# Altium schematic symbol library Project_Vega.SchLib: 56 symbols (part 1 of 2)
Pins are listed as number, name and electrical type; pins without a type are passive.

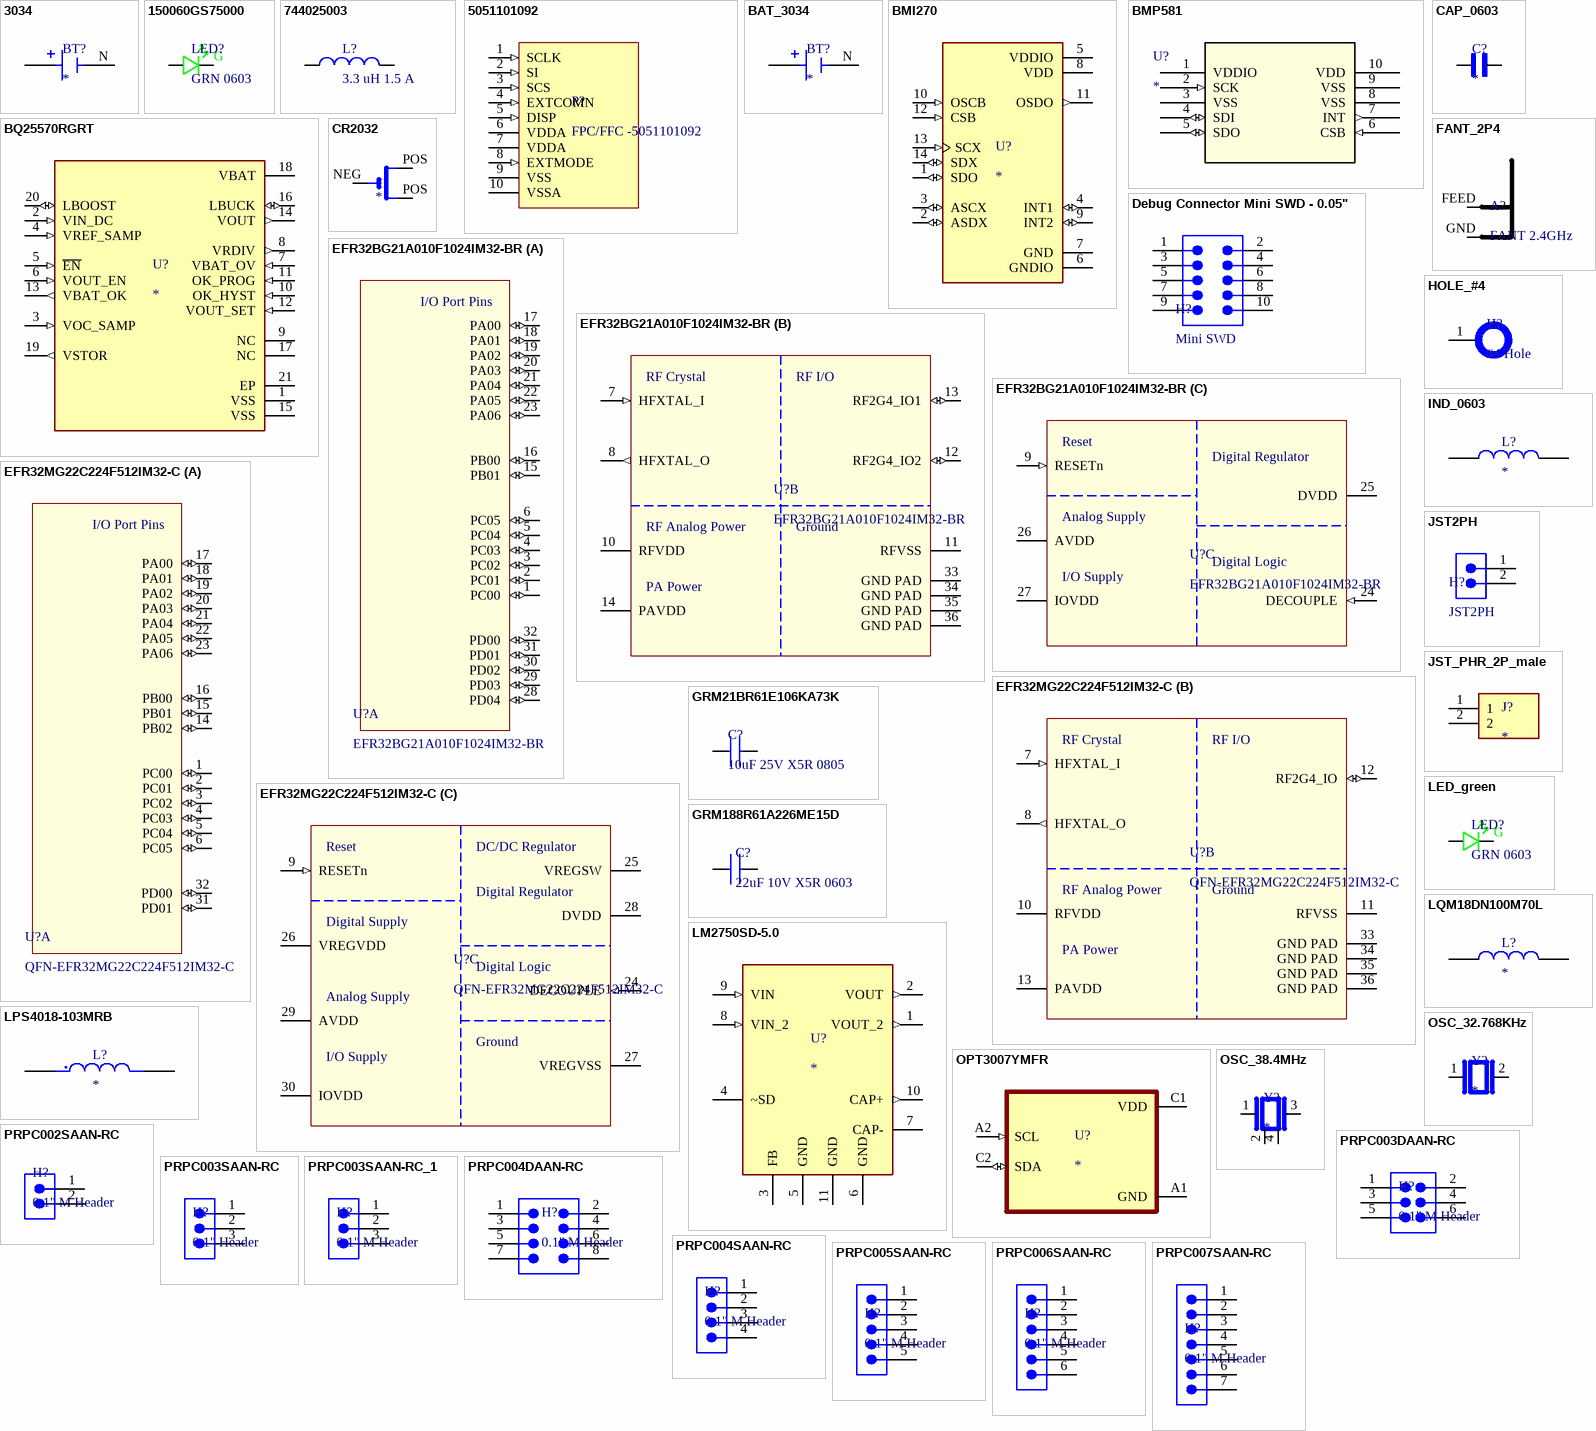
[diagram p0: symbols 3034 to PRPC007SAAN-RC]

## 3034
designator BT?
SMT Holder for 20mm Cell-Tin Nickel Plate; MP: 3034; MF: Keystone Electronics Corp.; SnapEDA_Link: https://www.snapeda.com/parts/3034/Keystone+Electronics/view-part/?ref=snap; Price: None; Check_prices: https://www.snapeda.com/parts/3034/Keystone+Electronics/view-part/?ref=eda; Availability: Not in stock; Value: *; Package: None
footprint BAT_3034
pins: N NEG, P1 POS, P2 POS

## 150060GS75000
designator LED?, comment GRN 0603
LED, 0603, GREEN, 430MCD, 520NM; Manufacturer: Wurth Electronics; Manufacturer Part Number: 150060GS75000; Dynamic Catalog: 0603 Rectangle with Flat Top Chip LEDs; 3D Model: SMCW_0603.igs / SMCW_0603.stp / SMCW_0603.wrl; Wavelength - Peak: 515nm; Voltage - Forward (Vf) (Typ): 3.2V; Current - Test: 20mA; Viewing Angle: 140°; Lens Type: Clear; Lens Style/Size: Rectangle with Flat Top, 1.1mm x 0.7mm; Other Names: 732-4971-2; Supplier 1: Digi-Key; Stock 1: 34964; Pricing 1: 1=0.14, 50=0.129, 100=0.11, 500=0.095 (USD); Standard Package: 4,000; Category: Optoelectronics; Family: LED Indication - Discrete; Series: WL-SMCW; Packaging: Tape & Reel (TR); Color: Green; Wavelength - Dominant: 520nm; Millicandela Rating: 430mcd; Package / Case: 0603 (1608 Metric); Size / Dimension: 1.60mm L x 0.80mm W; Height: 0.70mm; Mounting Type: Surface Mount; Online Catalog: 0603 Rectangle with Flat Top Chip LEDs; ComponentLink1URL: https://katalog.we-online.de/led/datasheet/150060GS75000.pdf?src-supplier=Digi-Key; ComponentLink1Description: https://katalog.we-online.de/led/datasheet/150060GS75000.pdf?src-supplier=Digi-Key; ComponentLink2URL: http://www.produktinfo.conrad.com/datenblaetter/750000-774999/759427-da-01-en-CHIPLED_0603_W_KL_GRUEN_150060GS75000.pdf?src-supplier=Conrad; ComponentLink2Description: http://www.produktinfo.conrad.com/datenblaetter/750000-774999/759427-da-01-en-CHIPLED_0603_W_KL_GRUEN_150060GS75000.pdf?src-supplier=Conrad; Supplier Part Number 1: 732-4971-1-ND
footprint LED_0603_GRN_WL-SMCW (SODFL, 2-Leads, Body 0.80x1.80mm, IPC Medium Density)
pins: A, C
text: G

## 744025003
designator L?, comment 3.3 uH 1.5 A
Power Choke Shielded Wirewound 3.3uH 20% 100KHz Ferrite 1.5A 101mOhm DCR T/R; Manufacturer: Wurth Electronics; Manufacturer Part Number: 744025003; Saturation Current: 1.8A; Self Resonant Frequency: 100MHz; DC Resistance (DCR): 101mR; ESR: 85MR; Supplier: Digikey; Supplier Part Number: 732-2614-1-ND; RoHS: Yes; Category: Fixed Inductors; Stock: 3837; Pricing: 1=1.64, 10=1.578, 50=1.45, 100=1.205, 250=1.088, 550=0.885, 1100=0.767 (USD); Mounting Technology: Surface Mount; Case/Package: 2828; Pins: 2; Core Material: Ferrite; Min Operating Temperature: -40°C; Max Operating Temperature: 125°C; Package Quantity: 1; Packaging: Cut Tape; Series: WE-TPC; Tolerance: 20%; Current Rating: 1.5A; Shielding: Shielded; Inductance Tolerance: 20%; Value: 3.3uH; Test Frequency: 100kHz; Max DC Current: 1.5A; Termination: SMD/SMT; RMS Current (Irms): 1.5A; Length: 2.8mm; Width: 2.8mm; Height: 2.8mm; Height - Seated (Max): 0.118inch; Depth: 2.8mm; RoHS Compliant: Yes; Reach SVHC Compliant: Unknown; ComponentLink1URL: https://datasheet.ciiva.com/1060/744025003-1060566.pdf?src-supplier=Digikey; ComponentLink1Description: https://datasheet.ciiva.com/1060/744025003-1060566.pdf?src-supplier=Digikey; ComponentLink2URL: https://datasheet.ciiva.com/4954/744025003-88791-4954796.pdf?src-supplier=Mouser; ComponentLink2Description: https://datasheet.ciiva.com/4954/744025003-88791-4954796.pdf?src-supplier=Mouser; ComponentLink3URL: https://datasheet.ciiva.com/11803/0900766b80f886b5-11803594.pdf?src-supplier=Rs; ComponentLink3Description: https://datasheet.ciiva.com/11803/0900766b80f886b5-11803594.pdf?src-supplier=Rs; ComponentLink4URL: https://datasheet.ciiva.com/1060/744025003-1060567.pdf?src-supplier=Digikey; ComponentLink4Description: https://datasheet.ciiva.com/1060/744025003-1060567.pdf?src-supplier=Digikey; ComponentLink5URL: https://datasheet.ciiva.com/1060/744025003-1060568.pdf?src-supplier=Digikey; ComponentLink5Description: https://datasheet.ciiva.com/1060/744025003-1060568.pdf?src-supplier=Digikey; ComponentLink6URL: https://datasheet.ciiva.com/14123/744025003-eng-tds-14123829.pdf?src-supplier=Distrelec; ComponentLink6Description: https://datasheet.ciiva.com/14123/744025003-eng-tds-14123829.pdf?src-supplier=Distrelec
footprint IND_2828x30 (Precision Wire Wound Inductor, 2-Leads, Body 2.80x2.80mm, IPC Medium Density)
pins: 1, 2

## 5051101092
designator P?, comment FPC/FFC -5051101092
10 Position FFC, FPC Connector Contacts, Bottom 0.020" (0.50mm) Surface Mount, Right Angle
footprint CON_5051101092_MOL
pins: 1 SCLK (in) "Serial clock signal", 2 SI (in) "Serial input signal", 3 SCS (in) "Chip select signal", 4 EXTCOMN (in) "External COM inversion signal input (H: Active)", 5 DISP (in) "Display ON/OFF signal", 6 VDDA (power) "Analog power supply", 7 VDDA (power) "Digital power supply", 8 EXTMODE (in) "COM inversion mode switch terminal", 9 VSS (power) "Logic GND", 10 VSSA (power) "Analog GND"

## BAT_3034
designator BT?
SMT Holder for 20mm Cell-Tin Nickel Plate; MP: 3034; MF: Keystone Electronics Corp.; SnapEDA_Link: https://www.snapeda.com/parts/3034/Keystone+Electronics/view-part/?ref=snap; Price: None; Check_prices: https://www.snapeda.com/parts/3034/Keystone+Electronics/view-part/?ref=eda; Availability: Not in stock; Value: *; Package: None; Supplier 1: Digikey; Supplier Part Number 1: 36-3034-ND
footprint BAT_3034
pins: N NEG, P1 POS, P2 POS

## BMI270
designator U?
Accelerometer, Gyroscope, 6 Axis Sensor IÂ²C, SPI Output; MP: BMI270; MF: Bosch Sensortec; Digi-Key_Part_Number: 828-1091-2-ND; Check_prices: https://www.snapeda.com/parts/BMI270/Bosch+Sensortec/view-part/?ref=eda; Package: LGA-14 Bosch Sensortec; SnapEDA_Link: https://www.snapeda.com/parts/BMI270/Bosch+Sensortec/view-part/?ref=snap; Value: *; Purchase-URL: https://pricing.snapeda.com/search/part/BMI270/?ref=eda; Supplier 1: Digikey; Supplier Part Number 1: 828-1091-1-ND
footprint XDCR_BMI270
pins: 1 SDO (io), 2 ASDX (io), 3 ASCX (io), 4 INT1 (io), 5 VDDIO (power), 6 GNDIO (power), 7 GND (power), 8 VDD (power), 9 INT2 (io), 10 OSCB (in), 11 OSDO (out), 12 CSB (in), 13 SCX (in), 14 SDX (io)

## BMP581
designator U?
Pressure sensor; Mfr_Name: Bosch Sensortec; RefDes: RefDes; Type: Type; Supplier 1: Digikey; Supplier Part Number 1: 828-BMP581CT-ND
footprint QFN10_BMP581_BOS-M
pins: 1 VDDIO (power), 2 SCK (in), 3 VSS (power), 4 SDI (io), 5 SDO (io), 6 CSB (in), 7 INT (out), 8 VSS (power), 9 VSS (power), 10 VDD (power)

## BQ25570RGRT
designator U?
Ultra Low power Harvester power Management IC with boost charger, and Nanopower Buck Converter 20-VQFN -40 to 125; MP: BQ25570RGRT; MF: Texas Instruments; Availability: Warning; SnapEDA_Link: https://www.snapeda.com/parts/BQ25570RGRT/Texas%20Instruments/view-part/49255/?ref=snap; Value: *; Price: None; Package: VQFN-20 Texas Instruments; Purchase-URL: https://pricing.snapeda.com/search/part/BQ25570RGRT/?ref=eda; Check_prices: https://www.snapeda.com/parts/BQ25570RGRT/Texas%20Instruments/view-part/49255/?ref=eda
footprint QFN50P350X350X100-21N
pins: 1 VSS (power), 2 VIN_DC (in), 3 VOC_SAMP (in), 4 VREF_SAMP (in), 5 ~{EN} (in), 6 VOUT_EN (in), 7 VBAT_OV (in), 8 VRDIV (out), 9 NC, 10 OK_HYST (in), 11 OK_PROG (in), 12 VOUT_SET (in), 13 VBAT_OK (out), 14 VOUT (out), 15 VSS (power), 16 LBUCK (io), 17 NC, 18 VBAT (power), 19 VSTOR (out), 20 LBOOST (io), 21 EP

## CAP_0603
designator C?
Ceramic Capacitor 0603; MF: Yageo; MP: CC0603KRX7R9BB104; SnapEDA_Link: https://www.snapeda.com/parts/CC0603KRX7R9BB104/Yageo/view-part/?ref=snap; Package: 0603 Yageo; Value: *; Check_prices: https://www.snapeda.com/parts/CC0603KRX7R9BB104/Yageo/view-part/?ref=eda
footprint CAP_0603 (Ceramic Capacitor 0603)
pins: 1, 2

## CR2032
designator ?
Coin, 20.0mm Lithium Manganese Dioxide 3V Battery Non-Rechargeable _Primary_; MF: FDK America,; MP: CR2032; Availability: Unavailable; Price: None; Package: FDK; Value: *; SnapEDA_Link: https://www.snapeda.com/parts/CR2032/FDK%20America%2C%20Inc.%2C%20a%20member%20of%20Fujitsu%20Group/view-part/1775317/?ref=snap
footprint CR2032-SMD
footprint CR2032-THRU
pins: NEG, POS, POS

## Debug Connector Mini SWD - 0.05"
designator H?, comment Mini SWD
Mini SWD 0.05" Pitch Connector - 10 Pin SMT Box Header; Manufacturer: Adafruit Industries; Manufacturer Part Number: 4048; Supplier 1: Digi-Key; RoHS: No; Category: Connectors; Stock 1: 201; Pricing 1: 1=1.95000 (USD); ComponentLink1URL: https://media.digikey.com/pdf/Data%20Sheets/Adafruit%20PDFs/4048_Web.pdf?src-supplier=Digi-Key; ComponentLink1Description: https://media.digikey.com/pdf/Data%20Sheets/Adafruit%20PDFs/4048_Web.pdf?src-supplier=Digi-Key
footprint FTSH-105-01-XXX-DV-K
pins: 1, 2, 3, 4, 5, 6, 7, 8, 9, 10

## EFR32BG21A010F1024IM32-BR
designator U?  (no BOM)
Blue Gecko, QFN32, 2.4G, 10dB, Bluetooth 5.1, 1024kB, 96kB(RAM), 20 GPIO; Manufacturer: Silicon Labs; Supplier: Digikey; Supplier Part Number: 336-5869-1-ND; Manufacturer Part Number: EFR32BG21A010F1024IM32-BR; RoHS: No; Category: RF Receivers, Transceivers; Stock: 38892; Pricing: 1=4.27, 10=3.816, 25=3.4348, 100=3.1293, 250=2.82404, 500=2.6875 (USD); ComponentLink1URL: https://www.silabs.com/documents/login/data-sheets/efr32bg21-datasheet.pdf?src-supplier=Digikey; ComponentLink1Description: https://www.silabs.com/documents/login/data-sheets/efr32bg21-datasheet.pdf?src-supplier=Digikey; ComponentLink2URL: https://datasheet.octopart.com/EFR32BG21A010F1024IM32-BR-Silicon-Labs-datasheet-142046433.pdf?src-supplier=Arrow.cn; ComponentLink2Description: https://datasheet.octopart.com/EFR32BG21A010F1024IM32-BR-Silicon-Labs-datasheet-142046433.pdf?src-supplier=Arrow.cn
footprint QFN32-EFR32xG2xIM32-BR (QFN, 32-Leads, Body 4.00x4.00mm, Pitch 0.40mm, Thermal Pad 2.80x2.80mm, IPC Medium Density)
part A pins: 1 PC00 (io) "GPIO", 2 PC01 (io) "GPIO", 3 PC02 (io) "GPIO", 4 PC03 (io) "GPIO", 5 PC04 (io) "GPIO", 6 PC05 (io) "GPIO", 15 PB01 (io) "GPIO", 16 PB00 (io) "GPIO", 17 PA00 (io) "GPIO", 18 PA01 (io) "GPIO", 19 PA02 (io) "GPIO", 20 PA03 (io) "GPIO", 21 PA04 (io) "GPIO", 22 PA05 (io) "GPIO", 23 PA06 (io) "GPIO", 28 PD04 (io) "GPIO", 29 PD03 (io) "GPIO", 30 PD02 (io) "GPIO", 31 PD01 (io) "GPIO", 32 PD00 (io) "GPIO"
part B pins: 7 HFXTAL_I (in) "High Frequency Crystal Input", 8 HFXTAL_O (out) "High Frequency Crystal Output", 10 RFVDD (power) "Radio power supply", 11 RFVSS (power) "Radio Ground", 12 RF2G4_IO2 (io) "2.4 GHz RF input/output", 13 RF2G4_IO1 (io) "2.4 GHz RF input/output", 14 PAVDD (power) "Power Amplifier (PA) power supply", 33 GND PAD (power) "Radio Ground", 34 GND PAD (power) "Radio Ground", 35 GND PAD (power) "Radio Ground", 36 GND PAD (power) "Radio Ground"
part C pins: 9 RESETn (in) "Reset Pin", 24 DECOUPLE (in) "Decouple output for on-chip voltage regulator. An external decoupling capacitor is required at this pin.", 25 DVDD (power) "Digital power supply", 26 AVDD (power) "Analog power supply", 27 IOVDD (power) "Digital IO power supply"
part A text: I/O Port Pins
part B text: RF Crystal; RF I/O; RF Analog Power; Ground; PA Power
part C text: Reset; Digital Regulator; Analog Supply; Digital Logic; I/O Supply

## EFR32MG22C224F512IM32-C
designator U?, comment QFN-EFR32MG22C224F512IM32-C
IC RF TxRx + MCU WiFi Bluetooth v5.2, Zigbee® 2.4GHz 32-VFQFN Exposed Pad
footprint QFN32-EFR32xG2xIM32-BR (QFN, 32-Leads, Body 4.00x4.00mm, Pitch 0.40mm, Thermal Pad 2.80x2.80mm, IPC Medium Density)
part A pins: 1 PC00 (io) "GPIO", 2 PC01 (io) "GPIO", 3 PC02 (io) "GPIO", 4 PC03 (io) "GPIO", 5 PC04 (io) "GPIO", 6 PC05 (io) "GPIO", 14 PB02 (io) "GPIO", 15 PB01 (io) "GPIO", 16 PB00 (io) "GPIO", 17 PA00 (io) "GPIO", 18 PA01 (io) "GPIO", 19 PA02 (io) "GPIO", 20 PA03 (io) "GPIO", 21 PA04 (io) "GPIO", 22 PA05 (io) "GPIO", 23 PA06 (io) "GPIO", 31 PD01 (io) "GPIO", 32 PD00 (io) "GPIO"
part B pins: 7 HFXTAL_I (in) "High Frequency Crystal Input", 8 HFXTAL_O (out) "High Frequency Crystal Output", 10 RFVDD (power) "Radio power supply", 11 RFVSS (power) "Radio Ground", 12 RF2G4_IO (io) "2.4 GHz RF input/output", 13 PAVDD (power) "Power Amplifier (PA) power supply", 33 GND PAD (power) "Radio Ground", 34 GND PAD (power) "Radio Ground", 35 GND PAD (power) "Radio Ground", 36 GND PAD (power) "Radio Ground"
part C pins: 9 RESETn (in) "Reset Pin", 24 DECOUPLE (in) "Decouple output for on-chip voltage regulator. An external decoupling capacitor is required at this pin.", 25 VREGSW (power) "DCDC regulator input supply", 26 VREGVDD (power) "Analog power supply", 27 VREGVSS (power) "DCDC ground", 28 DVDD (power) "Digital power supply", 29 AVDD  (power) "Analog power supply", 30 IOVDD (power) "I/O power supply"
part A text: I/O Port Pins
part B text: RF Crystal; RF I/O; RF Analog Power; Ground; PA Power
part C text: Reset; DC/DC Regulator; Digital Regulator; Digital Supply; Digital Logic; Analog Supply; Ground; I/O Supply

## FANT_2P4
designator A?, comment FANT 2.4GHz
Inverted F antenna
footprint FANT_2P4
pins: FEED 6, GND 6

## GRM21BR61E106KA73K
designator C?, comment 10uF 25V X5R 0805
Multilayer Ceramic Capacitor, 10 uF, 25 V, +/- 10%, X5R, 0805 [2012 Metric]; Manufacturer: Murata; Manufacturer Part Number: GRM21BR61E106KA73K; Supplier: Digikey; Supplier Part Number: 490-16824-1-ND; RoHS: Yes; Category: Ceramic Capacitors; Stock: 274241; Pricing: 1=0.21, 10=0.133, 50=0.0838, 100=0.0671, 500=0.04848, 1000=0.04288, 2500=0.04102, 5000=0.03729, 10000=0.03542, 20000=0.03356, 30000=0.03169, 50000=0.02983, 100000=0.02517, 250000=0.0233 (USD); Mounting Technology: Surface Mount; Case/Package: 0805; Weight: 0.000335oz; Case Code (Imperial): 0805; Case Code (Metric): 2012; Material: Ceramic; Min Operating Temperature: -55°C; Max Operating Temperature: 85°C; Packaging: Tape and Reel; Value: 10uF; Voltage Rating: 25V; Tolerance: 10%; Package Quantity: 10000; Dielectric: X5R; Voltage Rating (DC): 25V; Series: GRM; Length: 0.079inch; Width: 0.049inch; Height: 1.4mm; Thickness: 0.055inch; RoHS Compliant: Yes; ComponentLink1URL: http://www.mouser.com/ds/2/281/c02e-2905.pdf?src-supplier=Mouser; ComponentLink1Description: http://www.mouser.com/ds/2/281/c02e-2905.pdf?src-supplier=Mouser; ComponentLink2URL: http://search.murata.co.jp/Ceramy/image/img/A01X/G101/ENG/GRM21BR61E106KA73-01.pdf?src-supplier=Digikey; ComponentLink2Description: http://search.murata.co.jp/Ceramy/image/img/A01X/G101/ENG/GRM21BR61E106KA73-01.pdf?src-supplier=Digikey; ComponentLink3URL: https://search.murata.co.jp/Ceramy/image/img/A01X/G101/ENG/GRM21BR61E106KA73-01.pdf?src-supplier=Digikey; ComponentLink3Description: https://search.murata.co.jp/Ceramy/image/img/A01X/G101/ENG/GRM21BR61E106KA73-01.pdf?src-supplier=Digikey; ComponentLink4URL: https://datasheet.octopart.com/GRM21BR61E106KA73K-Murata-datasheet-149523495.pdf?src-supplier=Newark; ComponentLink4Description: https://datasheet.octopart.com/GRM21BR61E106KA73K-Murata-datasheet-149523495.pdf?src-supplier=Newark; ComponentLink5URL: https://datasheet.octopart.com/GRM21BR61E106KA73K-Murata-datasheet-99353849.pdf?src-supplier=Future+Electronics; ComponentLink5Description: https://datasheet.octopart.com/GRM21BR61E106KA73K-Murata-datasheet-99353849.pdf?src-supplier=Future+Electronics; ComponentLink6URL: https://datasheet.octopart.com/GRM21BR61E106KA73K-Murata-datasheet-165579666.pdf?src-supplier=TME; ComponentLink6Description: https://datasheet.octopart.com/GRM21BR61E106KA73K-Murata-datasheet-165579666.pdf?src-supplier=TME
footprint CAP_0805_2mmX1.25mm
pins: 1, 2

## GRM188R61A226ME15D
designator C?, comment 22uF 10V X5R 0603
CAP CER 22UF 10V X5R 0603; Manufacturer: Murata; Manufacturer Part Number: GRM188R61A226ME15D; Voltage Rating DC: 10 VDC; Tolerance: 20 %; Brand: Murata Electronics; Type: Voltage and Temperature Derating Recommended Product; Unit Weight: 0.000222 oz; Supplier 1: Digi-Key; Supplier Part Number 1: 490-10476-1-ND; Stock 1: 849458; Pricing 1: 1=0.33, 10=0.226, 50=0.1506, 100=0.1279, 500=0.0903, 1000=0.079 (USD); Product Category: Multilayer Ceramic Capacitors MLCC - SMD/SMT; RoHS: True; Capacitance: 22 uF; Dielectric: X5R; Case Code - in: 0603; Case Code - mm: 1608; Height: 0.8 mm; Maximum Operating Temperature: + 85 C; Minimum Operating Temperature: - 55 C; Product: General Type MLCCs; Series: GRM; Packaging: Reel; Length: 1.6 mm; Package / Case: 0603 (1608 metric); Factory Pack Quantity: 4000; Termination Style: SMD/SMT; Width: 0.8 mm; ComponentLink1URL: http://www.farnell.com/datasheets/2047978.pdf?src-supplier=Element14; ComponentLink1Description: http://www.farnell.com/datasheets/2047978.pdf?src-supplier=Element14
footprint CAP_0603_1MM (Chip Capacitor, 2-Leads, Body 1.60x0.80mm, IPC Medium Density)
pins: 1, 2

## HOLE_#4
designator H?, comment #4 Hole  (no BOM)
footprint HOLE_#4
pins: 1

## IND_0603
designator L?
Inductor Package 0603; MP: LQM18DN100M70L; MF: Murata Electronics; Price: None; SnapEDA_Link: https://www.snapeda.com/parts/LQM18DN100M70L/Murata/view-part/4834755/?ref=snap; Package: 0603 Murata; Availability: Unavailable; Value: *
footprint IND_0603 (Inductor Package 0603)
pins: 1, 2

## JST2PH
designator H?
Connector Header Through Hole 2 position 0.079" (2.00mm); Manufacturer: JST; Manufacturer Part Number: B2B-PH-K-S; Supplier: Digi-Key; Supplier Part Number: 455-1704-ND; RoHS: Yes; Category: Connectors; Stock: 1077617; Pricing: 1=0.19, 10=0.147, 100=0.1088, 500=0.09006, 1000=0.0788, 5000=0.06754, 10000=0.06567 (USD); ComponentLink1URL: https://datasheet.ciiva.com/6905/phseries-6905929.pdf?src-supplier=Digi-Key; ComponentLink1Description: https://datasheet.ciiva.com/6905/phseries-6905929.pdf?src-supplier=Digi-Key
footprint JST_B2B-PH-K-S(LF)(SN)
pins: 1, 2

## JST_PHR_2P_male
designator J?
2.0MM,HDR,2POS,R/A; Product_Type: Connector; Number_of_Positions: 2; MF: TE Connectivity; MP: 440055-2; Centerline_Pitch: 2 mm[.079 in]; SnapEDA_Link: https://www.snapeda.com/parts/440055-2/TE+Connectivity+AMP+Connectors/view-part/?ref=snap; Package: None; Value: *; EU_RoHS_Compliance: Compliant; Check_prices: https://www.snapeda.com/parts/440055-2/TE+Connectivity+AMP+Connectors/view-part/?ref=eda; Supplier 1: Digikey; Supplier Part Number 1: A100043-ND
footprint JST_PHR_2P_male
pins: 1, 2

## LED_green
designator LED?, comment GRN 0603
LED, 0603, GREEN, 430MCD, 520NM; Manufacturer: Wurth Electronics; Manufacturer Part Number: 150060GS75000; Dynamic Catalog: 0603 Rectangle with Flat Top Chip LEDs; 3D Model: SMCW_0603.igs / SMCW_0603.stp / SMCW_0603.wrl; Wavelength - Peak: 515nm; Voltage - Forward (Vf) (Typ): 3.2V; Current - Test: 20mA; Viewing Angle: 140°; Lens Type: Clear; Lens Style/Size: Rectangle with Flat Top, 1.1mm x 0.7mm; Other Names: 732-4971-2; Supplier 1: Digi-Key; Stock 1: 34964; Pricing 1: 1=0.14, 50=0.129, 100=0.11, 500=0.095 (USD); Standard Package: 4,000; Category: Optoelectronics; Family: LED Indication - Discrete; Series: WL-SMCW; Packaging: Tape & Reel (TR); Color: Green; Wavelength - Dominant: 520nm; Millicandela Rating: 430mcd; Package / Case: 0603 (1608 Metric); Size / Dimension: 1.60mm L x 0.80mm W; Height: 0.70mm; Mounting Type: Surface Mount; Online Catalog: 0603 Rectangle with Flat Top Chip LEDs; ComponentLink1URL: https://katalog.we-online.de/led/datasheet/150060GS75000.pdf?src-supplier=Digi-Key; ComponentLink1Description: https://katalog.we-online.de/led/datasheet/150060GS75000.pdf?src-supplier=Digi-Key; ComponentLink2URL: http://www.produktinfo.conrad.com/datenblaetter/750000-774999/759427-da-01-en-CHIPLED_0603_W_KL_GRUEN_150060GS75000.pdf?src-supplier=Conrad; ComponentLink2Description: http://www.produktinfo.conrad.com/datenblaetter/750000-774999/759427-da-01-en-CHIPLED_0603_W_KL_GRUEN_150060GS75000.pdf?src-supplier=Conrad; Supplier Part Number 1: 732-4971-1-ND
footprint LED_0603_GRN_WL-SMCW (SODFL, 2-Leads, Body 0.80x1.80mm, IPC Medium Density)
pins: A, C
text: G

## LM2750SD-5.0
designator U?
IC CONV REG SW CAP 5V; MP: LM2750SD-5-0; Package: None; Price: None; Value: *; Availability: Unavailable; Supplier 1: Digikey; Supplier Part Number 1: LM2750SD-5.0/NOPBCT-ND
footprint LM2750_DFN300X300X80-11N
pins: 1 VOUT_2 (out), 2 VOUT (out), 3 FB, 4 ~SD, 5 GND, 6 GND, 7 CAP-, 8 VIN_2 (in), 9 VIN (in), 10 CAP+ (out), 11 GND

## LPS4018-103MRB
designator L?
Power inductor, shielded, 20/30% tol, SMT, RoHS, lead-free, halogen-free; MF: Coilcraft; MP: LPS4018-103MRB; SnapEDA_Link: https://www.snapeda.com/parts/LPS4018-103MRB/Coilcraft/view-part/?ref=snap; Package: None; Value: *; Check_prices: https://www.snapeda.com/parts/LPS4018-103MRB/Coilcraft/view-part/?ref=eda
footprint IND_LPS4018-103MRB
pins: 1, 2

## LQM18DN100M70L
designator L?
Inductor with Inductance 10uH Tol.+/-20% Package 0603 (1608); MP: LQM18DN100M70L; MF: Murata Electronics; Price: None; SnapEDA_Link: https://www.snapeda.com/parts/LQM18DN100M70L/Murata/view-part/4834755/?ref=snap; Package: 0603 Murata; Availability: Unavailable; Value: *
footprint INDC1608X95N
pins: 1, 2

## OPT3007YMFR
designator U?
Ultra-thin ambient light sensor (ALS) with fixed I2C address 6-PICOSTAR -40 to 85; MP: OPT3007YMFR; MF: Texas Instruments; Value: *; Package: PICOSTAR-6 Texas Instruments; Check_prices: https://www.snapeda.com/parts/OPT3007YMFR/Texas+Instruments/view-part/?ref=eda; Price: None; Purchase-URL: https://pricing.snapeda.com/search/part/OPT3007YMFR/?ref=eda; SnapEDA_Link: https://www.snapeda.com/parts/OPT3007YMFR/Texas+Instruments/view-part/?ref=snap; Availability: In Stock; Supplier 1: Digikey; Supplier Part Number 1: 296-50382-1-ND
footprint BGA6N60X35P2X3_85X94X22N
pins: A1 GND (power), A2 SCL (in), C1 VDD (power), C2 SDA (io)

## OSC_32.768KHz
designator Y?
Tuning Fork Crystal 32.768kHz in 1.2 x 2.0mm package; MF: Micro Crystal; MP: CM8V-T1A-32.768KHZ-7PF-20PPM-TA-QC; Package: SMD-2 Micro Crystal; Price: None; Value: *; SnapEDA_Link: https://www.snapeda.com/parts/CM8V-T1A-32.768KHZ-7PF-20PPM-TA-QC/Micro+Crystal/view-part/?ref=snap; Availability: Not in stock; Check_prices: https://www.snapeda.com/parts/CM8V-T1A-32.768KHZ-7PF-20PPM-TA-QC/Micro+Crystal/view-part/?ref=eda; Supplier 1: Digikey; Supplier Part Number 1: 2195-CM8V-T1A-32.768KHZ-7PF-20PPM-TA-QCCT-ND
footprint OSC_32.768KHz (Tuning Fork Crystal 32.768kHz in 1.2 x 2.0mm package)
pins: 1, 2

## OSC_38.4MHz
designator Y?
38.4 MHz ±10ppm Crystal 10pF 40 Ohms 4-SMD, No Lead; MF: {'manufacturer': u'Murata Electronics'}; MP: XRCGB38M400F2P00R0; Package: None; Price: None; Value: *; Availability: Unavailable; Supplier 1: Digikey; Supplier Part Number 1: 4606-TZ3398BCT-ND
footprint OSC_38.4MHz (38.4 MHz ±10ppm Crystal 10pF 40 Ohms 4-SMD, No Lead)
pins: 1, 2, 3, 4

## PRPC002SAAN-RC
designator H?, comment 0.1" M Header
CONN HEADER VERT 2POS 2.54MM; Manufacturer: Sullins; Manufacturer Part Number: PRPC002SAAN-RC; Connector Type: Header, Unshrouded, Breakaway; Number of Positions: 2; Number of Positions Loaded: All; Pitch: 0.100" (2.54mm); Online Catalog: 0.100" (2.54mm) Pitch Connector Headers; Other Names: S9510E-02  S9510E-02-ND; Supplier 1: Digi-Key; Stock 1: 42739; Pricing 1: 1=0.08, 10=0.073, 25=0.054, 50=0.0464, 100=0.0449, 250=0.0387, 500=0.0372 (USD); Standard Package: 1; Category: Connectors, Interconnects; Family: Rectangular Connectors - Headers, Male Pins; Series: -; Packaging: Bulk; Contact Type: Male Pin; Number of Rows: 1; Row Spacing: -; Contact Mating Length: 0.230" (5.84mm); Mounting Type: Through Hole; Termination: Solder; Fastening Type: -; Features: -; Contact Finish: Gold; Contact Finish Thickness: Flash; Color: Black; ComponentLink1URL: https://media.digikey.com/PDF/Data%20Sheets/Sullins%20PDFs/xRxCzzzSxxN-RC_ST_11635-B.pdf?src-supplier=Digi-Key; ComponentLink1Description: https://media.digikey.com/PDF/Data%20Sheets/Sullins%20PDFs/xRxCzzzSxxN-RC_ST_11635-B.pdf?src-supplier=Digi-Key; Supplier Part Number 1: S1011EC-02-ND
footprint 2-PIN_MALE_HEADER_01-IN (Terminal Assembly, 1x2 Pins, Vertical, 2.54mm Pitch, Male)
pins: 1, 2

## PRPC003DAAN-RC
designator H?, comment 0.1" M Header
CONN HEADER Dual 6POS 2.54MM; Manufacturer: Sullins; Manufacturer Part Number: PRPC003DAAN-RC; Connector Type: Header, Unshrouded, Breakaway; Number of Positions: 6; Number of Positions Loaded: All; Pitch: 0.100" (2.54mm); Online Catalog: 0.100" (2.54mm) Pitch Connector Headers; Other Names: S9511E-03  S9511E-03-ND; Supplier 1: Digi-Key; Stock 1: 4304; Pricing 1: 1=0.19, 10=0.174, 25=0.1488, 50=0.13, 100=0.1207, 250=0.1068, 500=0.1022 (USD); Standard Package: 1; Category: Connectors, Interconnects; Family: Rectangular Connectors - Headers, Male Pins; Series: -; Packaging: Bulk; Contact Type: Male Pin; Number of Rows: 2; Row Spacing: 0.100" (2.54mm); Contact Mating Length: 0.230" (5.84mm); Mounting Type: Through Hole; Termination: Solder; Fastening Type: -; Features: -; Contact Finish: Gold; Contact Finish Thickness: Flash; Color: Black; ComponentLink1URL: https://drawings-pdf.s3.amazonaws.com/11636.pdf?src-supplier=Digi-Key; ComponentLink1Description: https://drawings-pdf.s3.amazonaws.com/11636.pdf?src-supplier=Digi-Key; Supplier Part Number 1: S2011EC-03-ND
footprint 6-PIN_DUAL_MALE_HEADER_01-IN (Terminal Assembly, 2x3 Pins, Vertical, 2.54mm Pitch, Male)
pins: 1, 2, 3, 4, 5, 6

## PRPC003SAAN-RC
designator H?, comment 0.1" Header
CONN HEADER VERT 3POS 2.54MM; Manufacturer: Sullins; Manufacturer Part Number: PRPC003SAAN-RC; Connector Type: Header, Unshrouded, Breakaway; Number of Positions: 3; Number of Positions Loaded: All; Pitch: 0.100" (2.54mm); Online Catalog: 0.100" (2.54mm) Pitch Connector Headers; Other Names: S9510E-03  S9510E-03-ND; Supplier 1: Digi-Key; Stock 1: 19067; Pricing 1: 1=0.12, 10=0.109, 25=0.0812, 50=0.0696, 100=0.0673, 250=0.058, 500=0.0557 (USD); Standard Package: 1; Category: Connectors, Interconnects; Family: Rectangular Connectors - Headers, Male Pins; Series: -; Packaging: Bulk; Contact Type: Male Pin; Number of Rows: 1; Row Spacing: -; Contact Mating Length: 0.230" (5.84mm); Mounting Type: Through Hole; Termination: Solder; Fastening Type: -; Features: -; Contact Finish: Gold; Contact Finish Thickness: Flash; Color: Black; ComponentLink1URL: https://media.digikey.com/PDF/Data%20Sheets/Sullins%20PDFs/xRxCzzzSxxN-RC_ST_11635-B.pdf?src-supplier=Digi-Key; ComponentLink1Description: https://media.digikey.com/PDF/Data%20Sheets/Sullins%20PDFs/xRxCzzzSxxN-RC_ST_11635-B.pdf?src-supplier=Digi-Key; Supplier Part Number 1: S1011EC-03-ND
footprint 3-PIN_MALE_HEADER_01-IN (.025 SQ Post Terminal Strip Assembly, 1x3 Pins, Vertical, 2.54mm Pitch, Male)
pins: 1, 2, 3

## PRPC003SAAN-RC_1
designator H?, comment 0.1" M Header
CONN HEADER VERT 3POS 2.54MM; Manufacturer: Sullins; Manufacturer Part Number: PRPC003SAAN-RC; Connector Type: Header, Unshrouded, Breakaway; Number of Positions: 3; Number of Positions Loaded: All; Pitch: 0.100" (2.54mm); Online Catalog: 0.100" (2.54mm) Pitch Connector Headers; Other Names: S9510E-03  S9510E-03-ND; Supplier 1: Digi-Key; Stock 1: 19067; Pricing 1: 1=0.12, 10=0.109, 25=0.0812, 50=0.0696, 100=0.0673, 250=0.058, 500=0.0557 (USD); Standard Package: 1; Category: Connectors, Interconnects; Family: Rectangular Connectors - Headers, Male Pins; Series: -; Packaging: Bulk; Contact Type: Male Pin; Number of Rows: 1; Row Spacing: -; Contact Mating Length: 0.230" (5.84mm); Mounting Type: Through Hole; Termination: Solder; Fastening Type: -; Features: -; Contact Finish: Gold; Contact Finish Thickness: Flash; Color: Black; ComponentLink1URL: https://media.digikey.com/PDF/Data%20Sheets/Sullins%20PDFs/xRxCzzzSxxN-RC_ST_11635-B.pdf?src-supplier=Digi-Key; ComponentLink1Description: https://media.digikey.com/PDF/Data%20Sheets/Sullins%20PDFs/xRxCzzzSxxN-RC_ST_11635-B.pdf?src-supplier=Digi-Key; Supplier Part Number 1: S1011EC-03-ND
footprint 3-PIN_MALE_HEADER_01-IN (.025 SQ Post Terminal Strip Assembly, 1x3 Pins, Vertical, 2.54mm Pitch, Male)
pins: 1, 2, 3

## PRPC004DAAN-RC
designator H?, comment 0.1" M Header
CONN HEADER DUAL 8POS 2.54MM; Manufacturer: Sullins; Manufacturer Part Number: PRPC004DAAN-RC; Connector Type: Header, Unshrouded, Breakaway; Number of Positions: 8; Number of Positions Loaded: All; Pitch: 0.100" (2.54mm); Online Catalog: 0.100" (2.54mm) Pitch Connector Headers; Other Names: S9511E-04  S9511E-04-ND; Supplier 1: Digi-Key; Stock 1: 4816; Pricing 1: 1=0.25, 10=0.232, 25=0.198, 50=0.1734, 100=0.161, 250=0.1424, 500=0.1362 (USD); Standard Package: 1; Category: Connectors, Interconnects; Family: Rectangular Connectors - Headers, Male Pins; Series: -; Packaging: Bulk; Contact Type: Male Pin; Number of Rows: 2; Row Spacing: 0.100" (2.54mm); Contact Mating Length: 0.230" (5.84mm); Mounting Type: Through Hole; Termination: Solder; Fastening Type: -; Features: -; Contact Finish: Gold; Contact Finish Thickness: Flash; Color: Black; ComponentLink1URL: https://s3.amazonaws.com/catalogspreads-pdf/PAGE110-111%20.100%20MALE%20HDR%20ST.pdf?src-supplier=Digi-Key; ComponentLink1Description: https://s3.amazonaws.com/catalogspreads-pdf/PAGE110-111%20.100%20MALE%20HDR%20ST.pdf?src-supplier=Digi-Key; Supplier Part Number 1: S2011EC-04-ND
footprint 8-PIN_DUAL_MALE_HEADER_01-IN (Assembly .025" [.64] SQ Post Terminal Strip, 2x4 Pins, Vertical, 2.54mm Pitch, Male)
pins: 1, 2, 3, 4, 5, 6, 7, 8

## PRPC004SAAN-RC
designator H?, comment 0.1" M Header
CONN HEADER VERT 4POS 2.54MM; Manufacturer: Sullins; Manufacturer Part Number: PRPC004SAAN-RC; Connector Type: Header, Unshrouded, Breakaway; Number of Positions: 4; Number of Positions Loaded: All; Pitch: 0.100" (2.54mm); Online Catalog: 0.100" (2.54mm) Pitch Connector Headers; Other Names: S9510E-04  S9510E-04-ND; Supplier 1: Digi-Key; Stock 1: 6306; Pricing 1: 1=0.15, 10=0.146, 25=0.1084, 50=0.0928, 100=0.0898, 250=0.0774, 500=0.0743 (USD); Standard Package: 1; Category: Connectors, Interconnects; Family: Rectangular Connectors - Headers, Male Pins; Series: -; Packaging: Bulk; Contact Type: Male Pin; Number of Rows: 1; Row Spacing: -; Contact Mating Length: 0.230" (5.84mm); Mounting Type: Through Hole; Termination: Solder; Fastening Type: -; Features: -; Contact Finish: Gold; Contact Finish Thickness: Flash; Color: Black; ComponentLink1URL: https://media.digikey.com/PDF/Data%20Sheets/Sullins%20PDFs/xRxCzzzSxxN-RC_ST_11635-B.pdf?src-supplier=Digi-Key; ComponentLink1Description: https://media.digikey.com/PDF/Data%20Sheets/Sullins%20PDFs/xRxCzzzSxxN-RC_ST_11635-B.pdf?src-supplier=Digi-Key; Supplier Part Number 1: S1011EC-04-ND
footprint 4-PIN_MALE_HEADER_01-IN (Assembly .025" [.64] SQ Post Terminal Strip, 1x4 Pins, Vertical, 2.54mm Pitch, Male)
pins: 1, 2, 3, 4

## PRPC005SAAN-RC
designator H?, comment 0.1" M Header
CONN HEADER VERT 5POS 2.54MM; Manufacturer: Sullins; Manufacturer Part Number: PRPC005SAAN-RC; Connector Type: Header, Unshrouded, Breakaway; Number of Positions: 5; Number of Positions Loaded: All; Pitch: 0.100" (2.54mm); Online Catalog: 0.100" (2.54mm) Pitch Connector Headers; Other Names: S9510E-05  S9510E-05-ND; Supplier 1: Digi-Key; Stock 1: 9728; Pricing 1: 1=0.19, 10=0.182, 25=0.1356, 50=0.1162, 100=0.1122, 250=0.0968, 500=0.0929 (USD); Standard Package: 1; Category: Connectors, Interconnects; Family: Rectangular Connectors - Headers, Male Pins; Series: -; Packaging: Bulk; Contact Type: Male Pin; Number of Rows: 1; Row Spacing: -; Contact Mating Length: 0.230" (5.84mm); Mounting Type: Through Hole; Termination: Solder; Fastening Type: -; Features: -; Contact Finish: Gold; Contact Finish Thickness: Flash; Color: Black; ComponentLink1URL: https://media.digikey.com/PDF/Data%20Sheets/Sullins%20PDFs/xRxCzzzSxxN-RC_ST_11635-B.pdf?src-supplier=Digi-Key; ComponentLink1Description: https://media.digikey.com/PDF/Data%20Sheets/Sullins%20PDFs/xRxCzzzSxxN-RC_ST_11635-B.pdf?src-supplier=Digi-Key; Supplier Part Number 1: S1011EC-05-ND
footprint 5-PIN_MALE_HEADER_01-IN (Press Fit Socket Assembly, 1x5 Pins, Vertical, 2.54mm Pitch, Male)
pins: 1, 2, 3, 4, 5

## PRPC006SAAN-RC
designator H?, comment 0.1" M Header
CONN HEADER VERT 6POS 2.54MM; Manufacturer: Sullins; Manufacturer Part Number: PRPC006SAAN-RC; Connector Type: Header, Unshrouded, Breakaway; Number of Positions: 6; Number of Positions Loaded: All; Pitch: 0.100" (2.54mm); Online Catalog: 0.100" (2.54mm) Pitch Connector Headers; Other Names: S9510E-06  S9510E-06-ND; Supplier 1: Digi-Key; Stock 1: 1567; Pricing 1: 1=0.19, 10=0.174, 25=0.1488, 50=0.13, 100=0.1207, 250=0.1068, 500=0.1022 (USD); Standard Package: 1; Category: Connectors, Interconnects; Family: Rectangular Connectors - Headers, Male Pins; Series: -; Packaging: Bulk; Contact Type: Male Pin; Number of Rows: 1; Row Spacing: -; Contact Mating Length: 0.230" (5.84mm); Mounting Type: Through Hole; Termination: Solder; Fastening Type: -; Features: -; Contact Finish: Gold; Contact Finish Thickness: Flash; Color: Black; ComponentLink1URL: https://media.digikey.com/PDF/Data%20Sheets/Sullins%20PDFs/xRxCzzzSxxN-RC_ST_11635-B.pdf?src-supplier=Digi-Key; ComponentLink1Description: https://media.digikey.com/PDF/Data%20Sheets/Sullins%20PDFs/xRxCzzzSxxN-RC_ST_11635-B.pdf?src-supplier=Digi-Key; Supplier Part Number 1: S1011EC-06-ND
footprint 6-PIN_MALE_HEADER_01-IN (Assembly .025" [.64] SQ Post Terminal Strip, 1x6 Pins, Vertical, 2.54mm Pitch, Male)
pins: 1, 2, 3, 4, 5, 6

## PRPC007SAAN-RC
designator H?, comment 0.1" M Header
CONN HEADER VERT 7POS 2.54MM; Manufacturer: Sullins; Manufacturer Part Number: PRPC007SAAN-RC; Connector Type: Header, Unshrouded, Breakaway; Number of Positions: 7; Number of Positions Loaded: All; Pitch: 0.100" (2.54mm); Online Catalog: 0.100" (2.54mm) Pitch Connector Headers; Other Names: S9510E-07  S9510E-07-ND; Supplier 1: Digi-Key; Stock 1: 5250; Pricing 1: 1=0.22, 10=0.203, 25=0.1732, 50=0.1518, 100=0.1409, 250=0.1246, 500=0.1192 (USD); Standard Package: 1; Category: Connectors, Interconnects; Family: Rectangular Connectors - Headers, Male Pins; Series: -; Packaging: Bulk; Contact Type: Male Pin; Number of Rows: 1; Row Spacing: -; Contact Mating Length: 0.230" (5.84mm); Mounting Type: Through Hole; Termination: Solder; Fastening Type: -; Features: -; Contact Finish: Gold; Contact Finish Thickness: Flash; Color: Black; ComponentLink1URL: https://media.digikey.com/PDF/Data%20Sheets/Sullins%20PDFs/xRxCzzzSxxN-RC_ST_11635-B.pdf?src-supplier=Digi-Key; ComponentLink1Description: https://media.digikey.com/PDF/Data%20Sheets/Sullins%20PDFs/xRxCzzzSxxN-RC_ST_11635-B.pdf?src-supplier=Digi-Key; Supplier Part Number 1: S1011EC-07-ND
footprint 7-PIN_MALE_HEADER_01-IN (.025 SQ Post Terminal Strip Assembly, 1x7 Pins, Vertical, 2.54mm Pitch, Male)
pins: 1, 2, 3, 4, 5, 6, 7

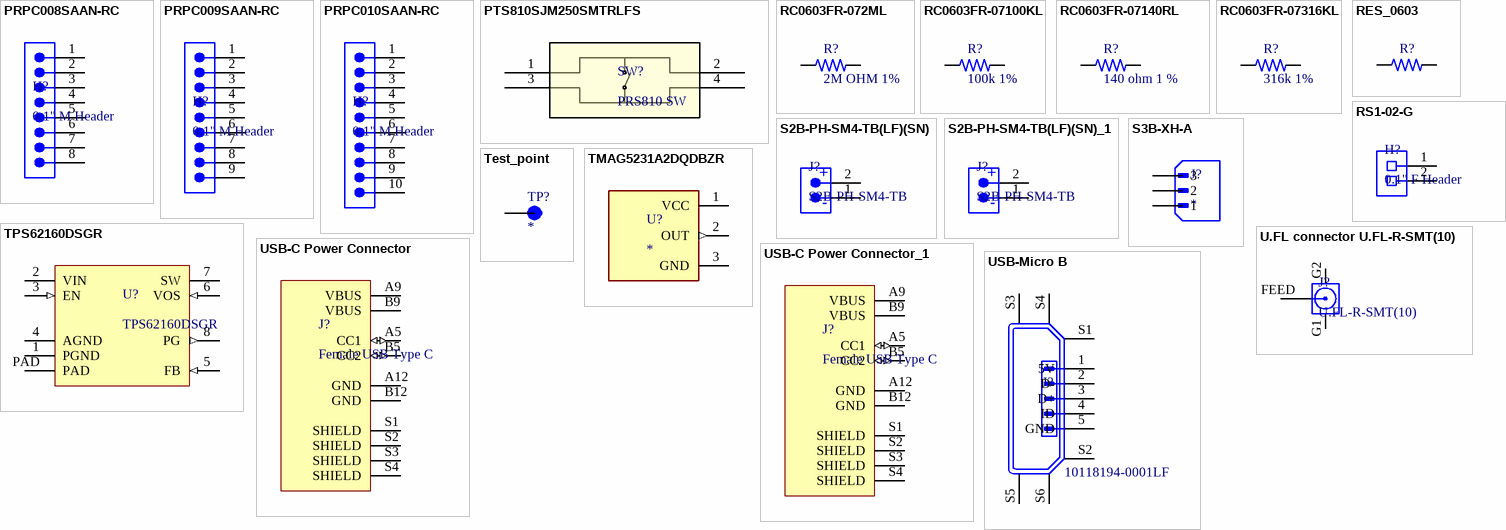
[diagram p1: symbols PRPC008SAAN-RC to USB-Micro B]

## PRPC008SAAN-RC
designator H?, comment 0.1" M Header
CONN HEADER VERT 8POS 2.54MM; Manufacturer: Sullins; Manufacturer Part Number: PRPC008SAAN-RC; Connector Type: Header, Unshrouded, Breakaway; Number of Positions: 8; Number of Positions Loaded: All; Pitch: 0.100" (2.54mm); Online Catalog: 0.100" (2.54mm) Pitch Connector Headers; Other Names: S9510E-08  S9510E-08-ND; Supplier 1: Digi-Key; Stock 1: 5089; Pricing 1: 1=0.25, 10=0.232, 25=0.198, 50=0.1734, 100=0.161, 250=0.1424, 500=0.1362 (USD); Standard Package: 1; Category: Connectors, Interconnects; Family: Rectangular Connectors - Headers, Male Pins; Series: -; Packaging: Bulk; Contact Type: Male Pin; Number of Rows: 1; Row Spacing: -; Contact Mating Length: 0.230" (5.84mm); Mounting Type: Through Hole; Termination: Solder; Fastening Type: -; Features: -; Contact Finish: Gold; Contact Finish Thickness: Flash; Color: Black; ComponentLink1URL: https://media.digikey.com/PDF/Data%20Sheets/Sullins%20PDFs/xRxCzzzSxxN-RC_ST_11635-B.pdf?src-supplier=Digi-Key; ComponentLink1Description: https://media.digikey.com/PDF/Data%20Sheets/Sullins%20PDFs/xRxCzzzSxxN-RC_ST_11635-B.pdf?src-supplier=Digi-Key; Supplier Part Number 1: S1011EC-08-ND
footprint 8-PIN_MALE_HEADER_01-IN (Press Fit Socket Assembly, 1x8 Pins, Vertical, 2.54mm Pitch, Male)
pins: 1, 2, 3, 4, 5, 6, 7, 8

## PRPC009SAAN-RC
designator H?, comment 0.1" M Header
CONN HEADER VERT 9POS 2.54MM; Manufacturer: Sullins; Manufacturer Part Number: PRPC009SAAN-RC; Connector Type: Header, Unshrouded, Breakaway; Number of Positions: 9; Number of Positions Loaded: All; Pitch: 0.100" (2.54mm); Online Catalog: 0.100" (2.54mm) Pitch Connector Headers; Other Names: S9510E-09  S9510E-09-ND; Supplier 1: Digi-Key; Stock 1: 1505; Pricing 1: 1=0.28, 10=0.261, 25=0.2228, 50=0.195, 100=0.1811, 250=0.1602, 500=0.1533 (USD); Standard Package: 1; Category: Connectors, Interconnects; Family: Rectangular Connectors - Headers, Male Pins; Series: -; Packaging: Bulk; Contact Type: Male Pin; Number of Rows: 1; Row Spacing: -; Contact Mating Length: 0.230" (5.84mm); Mounting Type: Through Hole; Termination: Solder; Fastening Type: -; Features: -; Contact Finish: Gold; Contact Finish Thickness: Flash; Color: Black; ComponentLink1URL: https://media.digikey.com/PDF/Data%20Sheets/Sullins%20PDFs/xRxCzzzSxxN-RC_ST_11635-B.pdf?src-supplier=Digi-Key; ComponentLink1Description: https://media.digikey.com/PDF/Data%20Sheets/Sullins%20PDFs/xRxCzzzSxxN-RC_ST_11635-B.pdf?src-supplier=Digi-Key; Supplier Part Number 1: S1011EC-09-ND
footprint 9-PIN_MALE_HEADER_01-IN (Press Fit Socket Assembly, 1x10 Pins, Vertical, 2.54mm Pitch, Male)
pins: 1, 2, 3, 4, 5, 6, 7, 8, 9

## PRPC010SAAN-RC
designator H?, comment 0.1" M Header
CONN HEADER VERT 10POS 2.54MM; Manufacturer: Sullins; Manufacturer Part Number: PRPC010SAAN-RC; Connector Type: Header, Unshrouded; Number of Positions: 10; Number of Positions Loaded: All; Pitch: 0.100" (2.54mm); Dynamic Catalog: 0.100" (2.54mm) Headers; Other Names: S9510E-10 / S9510E-10-ND; Supplier 1: Digi-Key; Stock 1: 2153; Pricing 1: 1=0.29, 10=0.271, 25=0.2324, 50=0.1974, 100=0.1896, 250=0.1703, 500=0.1625 (USD); Standard Package: 1; Category: Connectors, Interconnects; Family: Rectangular Connectors - Headers, Male Pins; Contact Type: Male Pin; Number of Rows: 1; Contact Mating Length: 0.230" (5.84mm); Mounting Type: Through Hole; Termination: Solder; Contact Finish: Gold; Contact Finish Thickness: Flash; Color: Black; Packaging: Bulk; ComponentLink1URL: https://media.digikey.com/PDF/Data%20Sheets/Sullins%20PDFs/xRxCzzzSxxN-RC_ST_11635-B.pdf?src-supplier=Digi-Key; ComponentLink1Description: https://media.digikey.com/PDF/Data%20Sheets/Sullins%20PDFs/xRxCzzzSxxN-RC_ST_11635-B.pdf?src-supplier=Digi-Key; Supplier Part Number 1: S1011EC-10-ND
footprint 10-PIN_MALE_HEADER_01-IN (Press Fit Socket Assembly, 1x10 Pins, Vertical, 2.54mm Pitch, Male)
pins: 1, 2, 3, 4, 5, 6, 7, 8, 9, 10

## PTS810SJM250SMTRLFS
designator SW?, comment PRS810 SW
Switch Tactile N.O. SPST Button J-Bend 0.05A 16V 150000Cycles 1.569N SMD T/R; Manufacturer: ITT C&K; Manufacturer Part Number: PTS810SJM250SMTRLFS; Actuator Color: Grey; Operating Force: 160gf; Current Rating: 50mA; Illumination Type: Non-Illuminated; Switch Travel: 0.15mm; Switch Function: Off-Mom; Number of Positions: 2; Actuator Type: Standard; Contact Resistance: 500mR; Supplier: Digikey; Supplier Part Number: CKN10502CT-ND; RoHS: Yes; Stock: 130228; Pricing: 1=0.49, 10=0.474, 25=0.4568, 100=0.3954, 250=0.36028, 500=0.3339, 1000=0.29876, 2900=0.28294, 5800=0.26185, 14500=0.24428 (USD); Mounting Technology: Surface Mount; Case/Package: SMD/SMT; Pins: 4; Mechanical Life: 150000Cycles; Color: Black; Contact Plating: Silver; Min Operating Temperature: -40°C; Max Operating Temperature: 85°C; Throw Configuration: SPST; Packaging: Tape and Reel; Voltage Rating (DC): 16V; Package Quantity: 2900; Series: PTS810; Termination: J-Bend; Max Current Rating: 50mA; Orientation: Straight; Contact Current Rating: 50mA; Length: 3.2mm; Depth: 4.6mm; RoHS Compliant: Yes; Lead Free: Lead Free; ComponentLink1URL: https://datasheet.ciiva.com/24082/pts810-4mar13-248115-24082262.pdf?src-supplier=Mouser; ComponentLink1Description: https://datasheet.ciiva.com/24082/pts810-4mar13-248115-24082262.pdf?src-supplier=Mouser; ComponentLink2URL: https://datasheet.ciiva.com/18514/pts810-4mar13-18514058.pdf?src-supplier=Digikey; ComponentLink2Description: https://datasheet.ciiva.com/18514/pts810-4mar13-18514058.pdf?src-supplier=Digikey; ComponentLink3URL: https://datasheet.ciiva.com/18514/pts810-4mar13-18514059.pdf?src-supplier=Digikey; ComponentLink3Description: https://datasheet.ciiva.com/18514/pts810-4mar13-18514059.pdf?src-supplier=Digikey; ComponentLink4URL: https://datasheet.ciiva.com/18514/pts810-4mar13-18514060.pdf?src-supplier=Digikey; ComponentLink4Description: https://datasheet.ciiva.com/18514/pts810-4mar13-18514060.pdf?src-supplier=Digikey
footprint PTS810_CNK
pins: 1, 2, 3, 4

## RC0603FR-072ML
designator R?, comment 2M OHM 1%
SMD Chip Resistor, 2 MOhm, ï¿½ 1%, 100 mW, 0603 [1608 Metric], Thick Film, General Purpose; Manufacturer: Yageo; Manufacturer Part Number: RC0603FR-072ML; Value: 2MR; Power Rating: 100mW; Voltage Rating: 75V; Temperature Coefficient: 100ppm/°C; Voltage Rating (DC): 50V; Supplier: Digikey; Supplier Part Number: 311-2.00MHRCT-ND; RoHS: Yes; Category: Chip SMD Resistors; Stock: 265977; Pricing: 1=0.1, 10=0.019, 50=0.0112, 100=0.0093, 500=0.00622, 1000=0.00532, 5000=0.00382, 10000=0.00335, 25000=0.00287, 35000=0.00278, 50000=0.00257, 125000=0.00232 (USD); Mounting Technology: Surface Mount; Case/Package: 0603; Case Code (Imperial): 0603; Case Code (Metric): 1608; Weight: 7.1E-05oz; Min Operating Temperature: -55°C; Max Operating Temperature: 155°C; Tolerance: 1%; Packaging: Tape and Reel; Package Quantity: 1; Termination: SMD/SMT; Number of Terminations: 2; Max Power Dissipation: 100mW; Features: Moisture Resistant; Series: RC; Technology: THICK FILM; Length: 1.6mm; Width: 0.031inch; Height: 0.45mm; Depth: 0.8mm; Lead Free: Lead Free; RoHS Compliant: Yes; ComponentLink1URL: https://datasheet.ciiva.com/11808/0900766b80f96399-11808743.pdf?src-supplier=Rs; ComponentLink1Description: https://datasheet.ciiva.com/11808/0900766b80f96399-11808743.pdf?src-supplier=Rs; ComponentLink2URL: https://datasheet.ciiva.com/2454/pyu-r-int-thick-7-2454114.pdf?src-supplier=Digikey; ComponentLink2Description: https://datasheet.ciiva.com/2454/pyu-r-int-thick-7-2454114.pdf?src-supplier=Digikey; ComponentLink3URL: https://datasheet.ciiva.com/2454/pyu-r-int-thick-7-2454115.pdf?src-supplier=Digikey; ComponentLink3Description: https://datasheet.ciiva.com/2454/pyu-r-int-thick-7-2454115.pdf?src-supplier=Digikey; ComponentLink4URL: https://datasheet.ciiva.com/2454/pyu-r-int-thick-7-2454116.pdf?src-supplier=Digikey; ComponentLink4Description: https://datasheet.ciiva.com/2454/pyu-r-int-thick-7-2454116.pdf?src-supplier=Digikey
footprint RES_0603_1608X06 (Chip Resistor, 2-Leads, Body 1.60x0.80mm, IPC Medium Density)
pins: 1, 2

## RC0603FR-07100KL
designator R?, comment 100k 1%
RES SMD 100K OHM 1% 1/10W 0603; Manufacturer: Yageo; Manufacturer Part Number: RC0603FR-07100KL; Resistance: 100 kOhms; Power Rating: 100 mW; Voltage Rating: 50 V; Temperature Coefficient: 100 PPM / C; Supplier 1: Digi-Key; Supplier Part Number 1: 311-100KHRCT-ND; Stock 1: 13478446; Pricing 1: 1=0.1, 10=0.022, 100=0.009, 1000=0.0041, 2500=0.0035 (USD); Termination Style: SMD/SMT; Product: Thick Film Resistors General Purpose; Tolerance: 1 %; Case Code - in: 0603; Case Code - mm: 1608; Series: RC; Operating Temperature Range: - 55 C to + 155 C; Packaging: Reel; ComponentLink1URL: http://www.farnell.com/datasheets/2167052.pdf?src-supplier=Element14; ComponentLink1Description: http://www.farnell.com/datasheets/2167052.pdf?src-supplier=Element14; ComponentLink2URL: http://www.farnell.com/datasheets/1868787.pdf?src-supplier=Element14; ComponentLink2Description: http://www.farnell.com/datasheets/1868787.pdf?src-supplier=Element14; ComponentLink3URL: http://documents.rs-components.com/techlib://itc_doclist_GB.htm?stockno=5048940&src-supplier=RSComponents; ComponentLink3Description: http://documents.rs-components.com/techlib://itc_doclist_GB.htm?stockno=5048940&src-supplier=RSComponents; ComponentLink4URL: http://www.farnell.com/datasheets/443971.pdf?src-supplier=Element14; ComponentLink4Description: http://www.farnell.com/datasheets/443971.pdf?src-supplier=Element14
footprint RES_0603_1608X06 (Chip Resistor, 2-Leads, Body 1.60x0.80mm, IPC Medium Density)
footprint RES_0603_1608X06 (Chip Resistor, 2-Leads, Body 1.60x0.80mm, IPC Medium Density)
pins: 1, 2

## RC0603FR-07140RL
designator R?, comment 140 ohm 1 %
SMD Chip Resistor, 140 Ohm, ± 1%, 100 mW, 0603 [1608 Metric], Thick Film, General Purpose; Manufacturer: Yageo; Manufacturer Part Number: RC0603FR-07140RL; Value: 140R; Power Rating: 100mW; Voltage Rating: 50V; Temperature Coefficient: 100ppm/°C; Supplier: Digikey; Supplier Part Number: 311-140HRCT-ND; RoHS: Yes; Category: Chip SMD Resistors; Stock: 238807; Pricing: 1=0.1, 10=0.019, 50=0.0112, 100=0.0093, 500=0.00622, 1000=0.00532, 5000=0.00382, 10000=0.00335, 25000=0.00287, 35000=0.00278, 50000=0.00257, 125000=0.00232 (USD); Mounting Technology: Surface Mount; Case/Package: 0603; Case Code (Imperial): 0603; Case Code (Metric): 1608; Min Operating Temperature: -55°C; Max Operating Temperature: 155°C; Tolerance: 1%; Packaging: Tape and Reel; Termination: SMD/SMT; Voltage Rating (DC): 50V; Features: Moisture Resistant; Series: RC; Max Power Dissipation: 100mW; Number of Terminations: 2; Construction: Rectangular; Technology: THICK FILM; Length: 1.6mm; Height: 0.45mm; Depth: 0.8mm; Lead Free: Lead Free; RoHS Compliant: Yes; Military Standard: Not; ComponentLink1URL: https://datasheet.ciiva.com/11808/0900766b80c66297-11808828.pdf?src-supplier=Rs; ComponentLink1Description: https://datasheet.ciiva.com/11808/0900766b80c66297-11808828.pdf?src-supplier=Rs; ComponentLink2URL: https://datasheet.ciiva.com/15189/getdatasheetpartid-329205-15189606.pdf?src-supplier=Verical; ComponentLink2Description: https://datasheet.ciiva.com/15189/getdatasheetpartid-329205-15189606.pdf?src-supplier=Verical
footprint RES_0603_1608X06 (Chip Resistor, 2-Leads, Body 1.60x0.80mm, IPC Medium Density)
pins: 1, 2

## RC0603FR-07316KL
designator R?, comment 316k 1%
SMD Chip Resistor, 316 kOhm, ± 1%, 100 mW, 0603 [1608 Metric], Thick Film, General Purpose; Manufacturer: Yageo; Manufacturer Part Number: RC0603FR-07316KL; Value: 316kR; Power Rating: 100mW; Voltage Rating: 50V; Temperature Coefficient: 100ppm/°C; Supplier: Digikey; Supplier Part Number: 311-316KHRCT-ND; RoHS: Yes; Category: Chip SMD Resistors; Stock: 149613; Pricing: 1=0.1, 10=0.019, 50=0.0112, 100=0.0093, 500=0.00622, 1000=0.00532 (USD); Mounting Technology: Surface Mount; Case/Package: 0603; Case Code (Imperial): 0603; Case Code (Metric): 1608; Min Operating Temperature: -55°C; Max Operating Temperature: 155°C; Tolerance: 1%; Packaging: Tape and Reel; Termination: SMD/SMT; Number of Terminations: 2; Max Power Dissipation: 100mW; Voltage Rating (DC): 50V; Features: Moisture Resistant; Series: RC; Lead Free: Lead Free; RoHS Compliant: Yes; ComponentLink1URL: https://datasheet.ciiva.com/2454/pyu-r-int-thick-7-2454966.pdf?src-supplier=Digikey; ComponentLink1Description: https://datasheet.ciiva.com/2454/pyu-r-int-thick-7-2454966.pdf?src-supplier=Digikey; ComponentLink2URL: https://datasheet.ciiva.com/2454/pyu-r-int-thick-7-2454967.pdf?src-supplier=Digikey; ComponentLink2Description: https://datasheet.ciiva.com/2454/pyu-r-int-thick-7-2454967.pdf?src-supplier=Digikey; ComponentLink3URL: https://datasheet.ciiva.com/2454/pyu-r-int-thick-7-2454968.pdf?src-supplier=Digikey; ComponentLink3Description: https://datasheet.ciiva.com/2454/pyu-r-int-thick-7-2454968.pdf?src-supplier=Digikey
footprint RES_0603_1608X06 (Chip Resistor, 2-Leads, Body 1.60x0.80mm, IPC Medium Density)
pins: 1, 2

## RES_0603
designator R?  (value not drawn)
Thick film general purpose resistor 0603; MP: RC0603JR-070RL; Availability: Unavailable; Package: None; Value: *; Price: None
footprint RES_0603 (Thick film general purpose resistor 0603)
pins: 1, 2

## RS1-02-G
designator H?, comment 0.1" F Header
RECEPTACLE STRIP 2P 2.54MM PITCH; Manufacturer: Adam Equipment; Manufacturer Part Number: RS1-02-G; Supplier 1: Digi-Key; Supplier Part Number 1: 2057-RS1-02-G-ND; Stock 1: 2558; Pricing 1: 1=0.17, 10=0.159, 100=0.1103, 500=0.0933, 1000=0.0764, 5000=0.0679, 10000=0.0615 (USD)
footprint 2-PIN_FEMALE_HEADER_01-IN (Terminal Assembly, 1x2 Pins, Vertical, 2.54mm Pitch, Male)
pins: 1, 2